# EAGLE library part WINSTAR_20X4_1 (library Dennistries-Josh)
WINSTAR 20x4 Character OLED Display
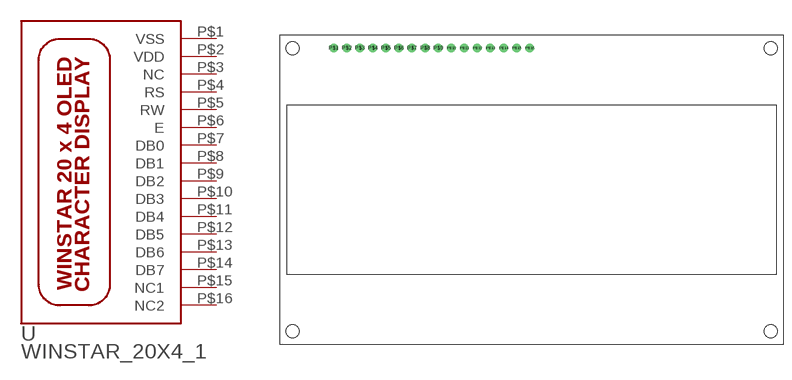
[diagram p52: symbol with the pads of WINSTAR_20X4_1; footprint WINSTAR_20X4_1]

Designator prefix -

## WINSTAR_20X4_1  [WINSTAR_20X4_1]
P$1  VSS  sup
P$2  VDD  sup
P$3  NC  nc
P$4  RS  in
P$5  RW  in
P$6  E  in
P$7  DB0
P$8  DB1
P$9  DB2
P$10  DB3
P$11  DB4
P$12  DB5
P$13  DB6
P$14  DB7
P$15  NC1  nc
P$16  NC2  nc

## Footprint WINSTAR_20X4_1 (pad centres in mm)
drill 1.1: P$1 -38.5,27.5; P$2 -35.96,27.5; P$3 -33.42,27.5; P$4 -30.88,27.5; P$5 -28.34,27.5; P$6 -25.8,27.5; P$7 -23.26,27.5; P$8 -20.72,27.5; P$9 -18.18,27.5; P$10 -15.64,27.5; P$11 -13.1,27.5; P$12 -10.56,27.5; P$13 -8.02,27.5; P$14 -5.48,27.5; P$15 -2.94,27.5; P$16 -0.4,27.5
hole 2.5 at -46.5,27.5
hole 2.5 at -46.5,-27.5
hole 2.5 at 46.5,27.5
hole 2.5 at 46.5,-27.5